# Altium schematic symbol library TAJC227M010RNJ.Schlib: 1 symbol
Pins are listed as number, name and electrical type; pins without a type are passive.

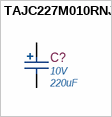
[diagram p0: symbol TAJC227M010RNJ]

## TAJC227M010RNJ
designator C?  Voltage: 10V  Capacitance: 220uF  (hidden comment: TAJC227M010RNJ)
220uF ±20% 10V 500 mΩ @ 100kHz -55℃ ~ +125℃ CASE-C_6032 Tantalum Capacitors RoHS; Manufacturer 1: Kyocera AVX; Manufacturer Part Number 1: TAJC227K006RNJ; Tolerance: 10%; ESR (Equivalent Series Resistance): 1.2R; Dissipation Factor: 8%; Leakage Current: 13.9uA; Polarity: Polar; Supplier 1: Digi-Key; RoHS: Yes; Category: Tantalum Capacitors; Stock 1: 38930; Pricing 1: 1=0.71000, 10=0.52300, 100=0.35880 (USD); Mount: Surface Mount,PCB; Case/Package: 2412; Number of Pins: 2; Case Code (Metric): 6032; Case Code (Imperial): 2312; Dielectric Material: Tantalum; Min Operating Temperature: -55°C; Max Operating Temperature: 125°C; Features: General Purpose; Termination: SMD/SMT; Voltage Rating (DC): 10V; Packaging: Tape and Reel; Package Quantity: 500; Length: 6mm; Height: 2.6mm; Depth: 3.2mm; Height - Seated (Max): 0.11inch; Width: 3.2mm; Radiation Hardening: No; REACH SVHC: No SVHC; Lead Free: Lead Free; Supplier Part Number 1: 478-1713-1-ND; Voltage Rating: 10V; LCSC Part #: C132272; ComponentLink1Description: LCSC - AVX TAJC227M010RNJ; ComponentLink1URL: https://lcsc.com/product-detail/Tantalum-Capacitors_AVX_TAJC227M010RNJ_220uF-227-20-10V_C132272.html; JLCPCB Part Type: Extended
footprint TANTAL_C
pins: 1, 2